# EAGLE library part INA260AIPWR (library INA260AIPWR)
Check prices <https://pricing.snapeda.com/parts/INA260AIPWR/Texas%20Instruments/view-part?ref=eda>
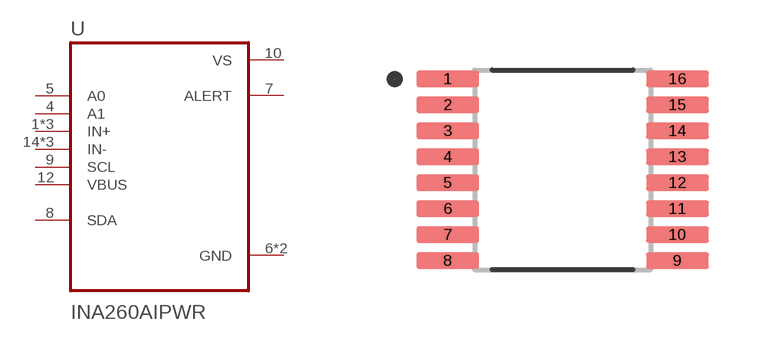
[diagram p0: symbol with the pads of SOP65P640X120-16N; footprint SOP65P640X120-16N]

Designator prefix U

## INA260AIPWR (Availability: In Stock; Description: 36V, 16-bit, precision i2c output current/voltage/power monitor w/ int. shunt resistor 16-TSSOP -40 to 125; MF: Texas Instruments; MP: INA260AIPWR; Package: TSSOP-16 Texas Instruments; Price: None; Purchase-URL: https://pricing.snapeda.com/search/part/INA260AIPWR/?ref=eda)  [SOP65P640X120-16N]
1  IN+  in
2  IN+  in
3  IN+  in
4  A1  in
5  A0  in
6  GND  pwr
7  ALERT  out
8  SDA
9  SCL  in
10  VS  pwr
11  GND  pwr
12  VBUS  in
14  IN-  in
15  IN-  in
16  IN-  in

## Footprint SOP65P640X120-16N (pad centres in mm)
smd 1.57 x 0.41: 1 -2.87,2.275; 2 -2.87,1.625; 3 -2.87,0.975; 4 -2.87,0.325; 5 -2.87,-0.325; 6 -2.87,-0.975; 7 -2.87,-1.625; 8 -2.87,-2.275; 9 2.87,-2.275; 10 2.87,-1.625; 11 2.87,-0.975; 12 2.87,-0.325; 13 2.87,0.325; 14 2.87,0.975; 15 2.87,1.625; 16 2.87,2.275